# Altium schematic symbol library ICs_EFR.SchLib: 131 symbols (part 4 of 4)
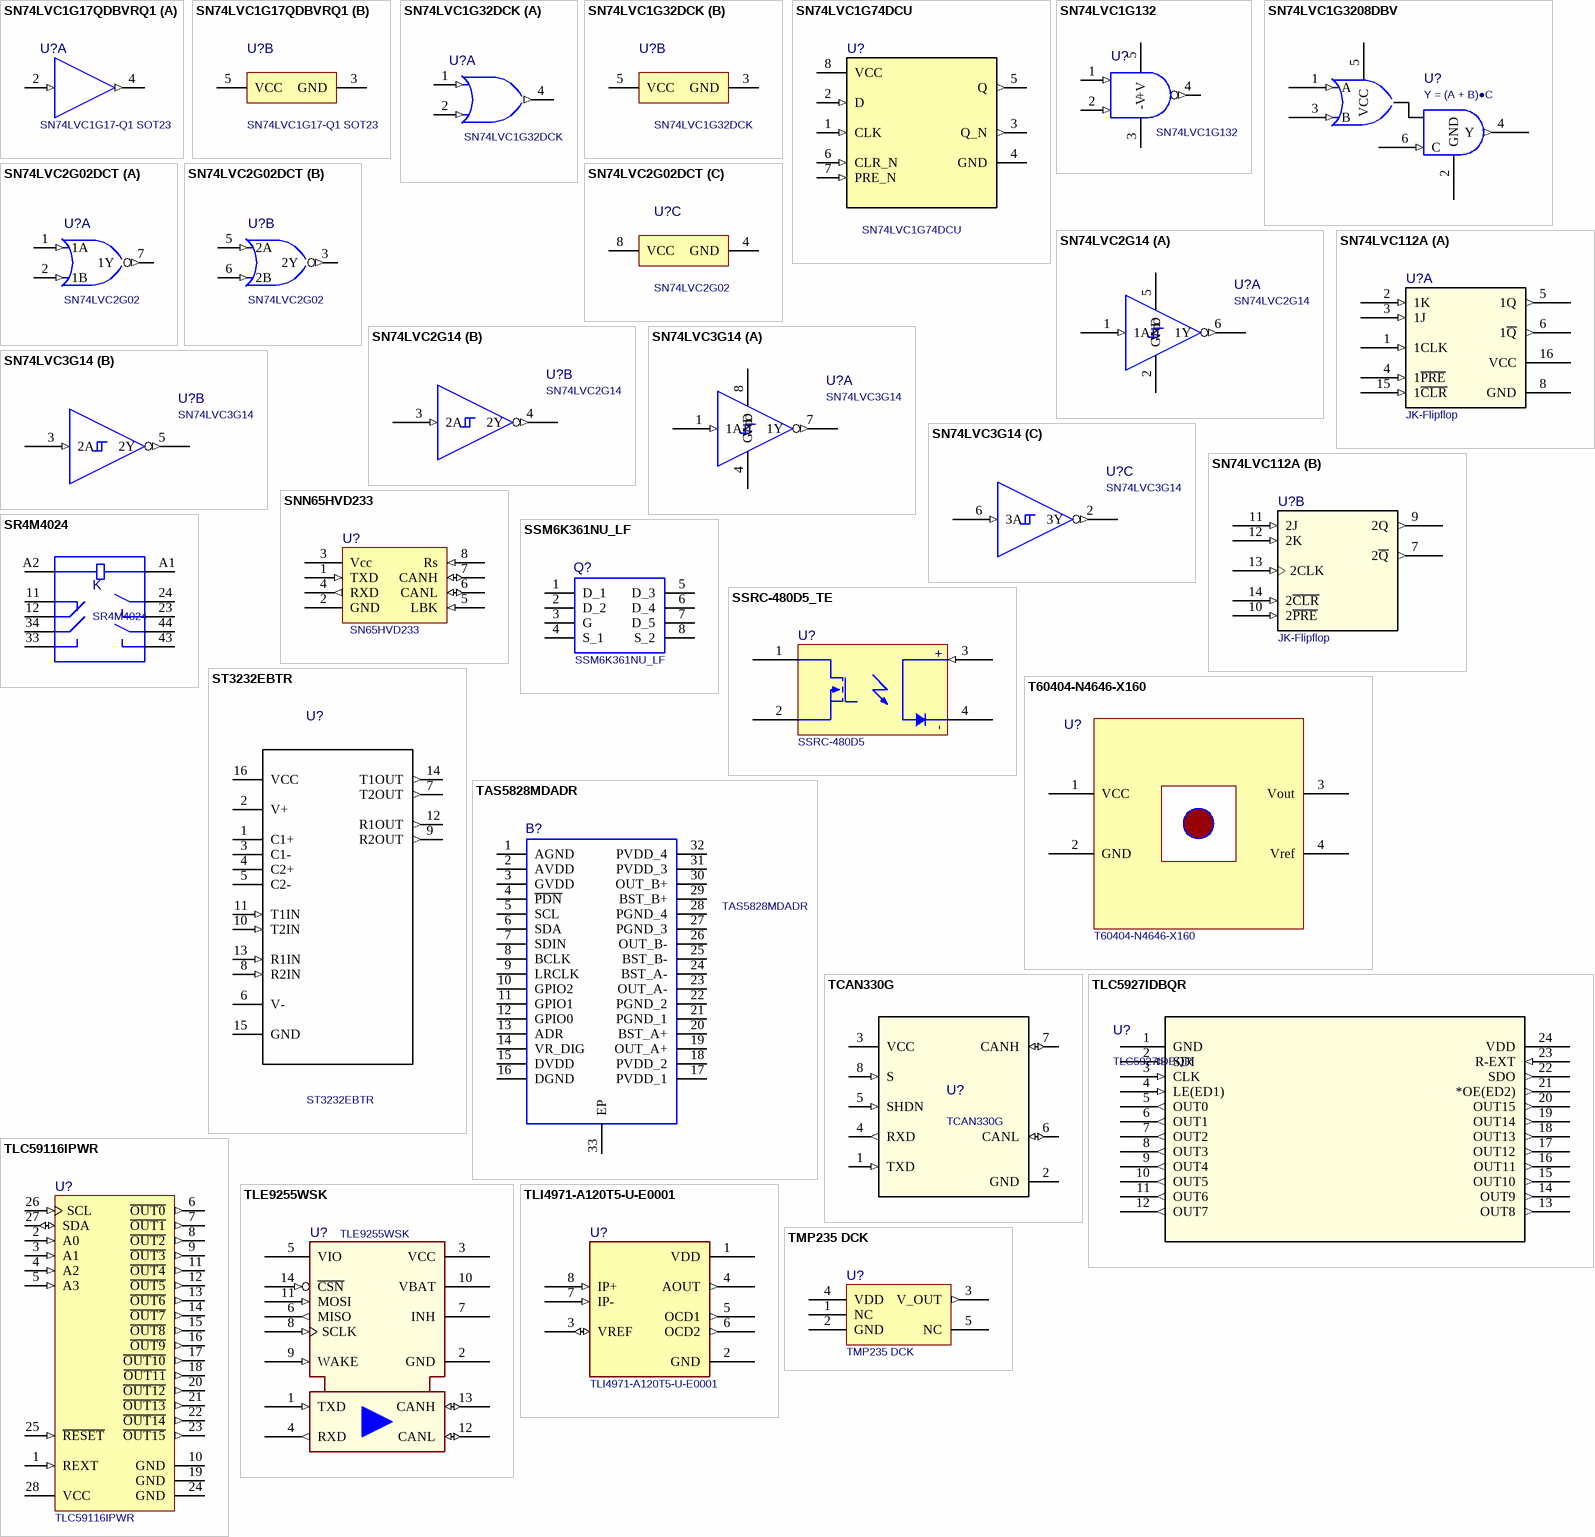
[diagram p11: symbols SN74LVC1G17QDBVRQ1 to TMP235 DCK]

## SN74LVC1G74DCU
designator U?
Single Positive-Edge-Triggered D-Type Flip-Flop With Clear and Preset; Manufacturer: Texas Instruments; Manufacturer P/N: SN74LVC1G74DCUT; CompType: IC; Type: DEV; RefDes: RefDes; Copyright: Copyright (C) 2023 Ultra Librarian. All rights reserved.; Application_BuildNumber: *; Manufacturer P/N: SN74LVC1G74DCU; Alternate_PartNumber: SN74LVC1G74DCUT; PackageReference: DCU0008A; Mounting Technology: SMT; RoHS: Y; ComponentLink1Description: Manufacturer; ComponentLink1URL: https://www.ti.com/product/de-de/SN74LVC1G74/part-details/SN74LVC1G74DCUT; ComponentLink2Description: Datasheet; ComponentLink2URL: https://www.ti.com/lit/gpn/SN74LVC1G74
footprint VSSOP-8_L (DCU8_TEX)
footprint VSSOP-8_N (DCU8_TEX)
footprint VSSOP-8_M (DCU8_TEX)
pins: 1 CLK (in), 2 D (in), 3 Q_N (out), 4 GND (power), 5 Q (out), 6 CLR_N (in), 7 PRE_N (in), 8 VCC (power)

## SN74LVC1G132
designator U?
Single 2-Input NAND Gate With Schmitt-Trigger Inputs; Manufacturer: Texas Instruments; Manufacturer P/N: SN74LVC1G38; Rating: Catalog; VCC(Min)(V): 1.65; VCC(Max)(V): 5.5; Bits(#): 1; F @ Nom Voltage(Max)(Mhz): 150; Logic: True; Output Type: CMOS; Technology Family: LVC; Voltage(Nom)(V): 1.8,2.5,3.3,5; Output Drive (IOL/IOH)(Max)(mA): 32/-32; Schmitt Trigger: No; Input Type: CMOS/TTL; ICC @ Nom Voltage(Max)(mA): 0.01; tpd @ Nom Voltage(Max)(ns): 10,6,4.5,3.9; DatasheetVersion: SCES538D; Operating Temperature Range(C): -40 to 125,-40 to 85; 3-State Output: No; Gate Type: NAND; PackageReference: DCK0005A; Sub-Family: NAND Gate; ComponentLink1Description: Datenblatt; ComponentLink1URL: http://www.ti.com/lit/ds/symlink/sn74lvc1g132.pdf; ComponentLink2Description: Hersteller; ComponentLink2URL: https://www.ti.com/product/SN74LVC1G132; Mounting Technology: SMT
footprint SC70-5_N (DCK5)
footprint SC70-5_L (DCK5)
footprint SC70-5_M (DCK5)
footprint SOT23-5_L (DBV5) (DBV)
footprint SOT23-5_N (DBV5)
footprint SOT23-5_M (DBV5)
pins: 1 A (in), 2 B (in), 3 -V (power), 4 Y (out), 5 +V (power)

## SN74LVC1G3208DBV
designator U?, comment Y = (A + B)●C
Single 3-Input Positive OR-AND Gate; Manufacturer: Texas Instruments; Manufacturer P/N: SN74LVC1G3208DBV; FAMILY_NAME: LL AND-OR, OR-AND GATE; Pin Number: 6; PackageDescriptor: DBV; Package: SOT-23-6; Type: Logic; ComponentLink1Description: Datasheet; ComponentLink1URL: http://www.ti.com/lit/gpn/SN74LVC1G3208; ComponentLink2Description: Manufacturer; ComponentLink2URL: https://www.ti.com/product/SN74LVC1G3208; Mounting Technology: SMT
footprint SOT23-6_L
footprint SOT23-6_N
footprint SOT23-6_M
pins: 1 A (in), 2 GND (power), 3 B (in), 4 Y (out), 5 VCC (power), 6 C (in)

## SN74LVC2G02DCT
designator U?, comment SN74LVC2G02
NOR Gate 2ch 2-IN CMOS Push-Pull; Manufacturer: Texas Instruments; Manufacturer P/N: SN74LVC2G02DCT; Min Supply Voltage: 1.65V; Max Supply Voltage: 5.5V; Propagation Delay: 4.4ns; Number of Outputs: 1; Number of Inputs: 2; Low Level Output Current: 32mA; Quiescent Current: 10uA; High Level Output Current: -32mA; Supplier: Mouser; Supplier Part Number: 595-SN74LVC2G02DCTR; RoHS: Yes; Category: Logic Gates; Case/Package: SSOP; Pins: 8; Weight: 0.000825oz; Min Operating Temperature: -40°C; Max Operating Temperature: 125°C; Logic Function: NOR GATE; Packaging: Tape and Reel; Number of Gates: 2; Number of Input Lines: 2; Number of Output Lines: 1; Number of Circuits: 2; Number of Elements: 2; Number of Bits: 2; Series: 74LVC; Technology: CMOS; Radiation Hardening: No; ComponentLink9Description: Website; ComponentLink9URL: https://www.ti.com/product/SN74LVC2G02; ComponentLink10Description: Datasheet; ComponentLink10URL: https://www.ti.com/lit/gpn/sn74lvc2g02; Mounting Technology: SMT
footprint SSOP-8_L SM8 (DCT8)
footprint SSOP-8_N SM8 (DCT8)
footprint SSOP-8_M SM8 (DCT8)
part A pins: 1 1A (in) "Channel 1 input A", 2 1B (in) "Channel 1 input B", 7 1Y (out) "Channel 1 input Y"
part B pins: 3 2Y (out) "Channel 2 input Y", 5 2A (in) "Channel 2 input A", 6 2B (in) "Channel 2 input B"
part C pins: 4 GND (power) "Ground", 8 VCC (power) "Positive supply"

## SN74LVC2G14
designator U?
Dual Schmitt-Trigger Inverter; Manufacturer: Texas Instruments; Manufacturer P/N: SN74LVC2G14; Type: *; ComponentLink1Description: Datasheet; ComponentLink1URL: https://www.ti.com/lit/gpn/SN74LVC2G14; ComponentLink2Description: Datasheet (Q1); ComponentLink2URL: https://www.ti.com/lit/gpn/SN74LVC2G14-Q1; ComponentLink3Description: Website; ComponentLink3URL: https://www.ti.com/product/SN74LVC2G14; ComponentLink4Description: Website (Q1); ComponentLink4URL: https://www.ti.com/product/SN74LVC2G14-Q1; Mounting Technology: SMT
footprint SOT23-6_L
footprint SOT23-6_N
footprint SOT23-6_M
footprint DSBGA-6 (YZP6_TEX)
footprint SC70-6_L (DCK6_TEX)
footprint SC70-6_N (DCK6_TEX)
footprint SC70-6_M (DCK6_TEX)
ibis LVC2G14_DCK (Model Description)
part A pins: 1 1A (in) "Gate 1 logic signal", 2 GND "Ground", 5 Vcc "Supply/Power Pin", 6 1Y (out) "Gate 1 inverted signal"
part B pins: 3 2A (in) "Gate 2 logic signal", 4 2Y (out) "Gate 1 inverted signal"

## SN74LVC3G14
designator U?
Triple Schmitt-Trigger Inverter; Manufacturer: Texas Instruments; Manufacturer P/N: SN74LVC3G14; ComponentLink1Description: Datasheet; ComponentLink1URL: https://www.ti.com/lit/gpn/SN74LVC3G14; ComponentLink2Description: Website; ComponentLink2URL: https://www.ti.com/product/SN74LVC3G14; Mounting Technology: SMT
footprint VSSOP-8_L (DCU8_TEX)
footprint VSSOP-8_N (DCU8_TEX)
footprint VSSOP-8_M (DCU8_TEX)
footprint SSOP-8_L SM8 (DCT8)
footprint SSOP-8_N SM8 (DCT8)
footprint SSOP-8_M SM8 (DCT8)
footprint DSBGA-8 (YZP8)
part A pins: 1 1A (in) "Input 1A", 4 GND "Ground", 7 1Y (out) "Output 1Y", 8 Vcc "Supply/Power Pin"
part B pins: 3 2A (in) "Input 2A", 5 2Y (out) "Output 2Y"
part C pins: 2 3Y (out) "Output 3Y", 6 3A (in) "Input 3A"

## SN74LVC112A
designator U?, comment JK-Flipflop
Dual Negative-Edge-Triggered J-K Flip-Flop With Clear And Preset; Manufacturer: Texas Instruments; Manufacturer P/N: SN74LVC112A; INDUSTRY_STD_PKG_TYPE: SOIC; FAMILY_NAME: J-K FLIPFLOP; Pin Number: 16; PackageDrawing: D; Datasheet_URL: http://www.ti.com/lit/gpn/SN74LVC112A; Copyright: Copyright (C) 2018 Accelerated Designs. All rights reserved; RefDes: RefDes; Type: DEV; Value: Value; ComponentLink1Description: Datasheet; ComponentLink1URL: https://www.ti.com/lit/ds/symlink/sn74lvc112a.pdf; ComponentLink2Description: Manufacturer; ComponentLink2URL: https://www.ti.com/product/SN74LVC112A; Mounting Technology: SMT
footprint SOIC-16_L (D)
footprint SOIC-16_N (D)
footprint SOIC-16_M (D)
footprint TSSOP-16_L (PW)
footprint TSSOP-16_N (PW)
footprint TSSOP-16_M (PW)
footprint SOP-16_L (NS)
footprint SOP-16_N (NS)
footprint SOP-16_M (NS)
footprint SSOP-16_L (DB)
footprint SSOP-16_N (DB)
footprint SSOP-16_M (DB)
footprint TVSOP-16_L (DGV)
footprint TVSOP-16_N (DGV)
footprint TVSOP-16_M (DGV)
part A pins: 1 1CLK (in), 2 1K (in), 3 1J (in), 4 1~{PRE} (in), 5 1Q (out), 6 1~{Q} (out), 8 GND (power), 15 1~{CLR} (in), 16 VCC (power)
part B pins: 7 2~{Q} (out), 9 2Q (out), 10 2~{PRE} (in), 11 2J (in), 12 2K (in), 13 2CLK (in), 14 2~{CLR} (in)

## SNN65HVD233
designator U?, comment SN65HVD233
3.3V CAN Transceiver with Loopback Mode; Manufacturer: Texas Instruments; Manufacturer P/N: SN65HVD233D; Contronix P/N: UGFVXZ; A I: 0; Voltage Max (V): 3,6; Current (A): 0,01; Pin Number: 8; Design Item Id: SN65HVD233; Package: 8-SOIC; Number of Rows: 2; Stock: 25; Price (€): 4,43; Supplier 1: RS; Supplier Part Number 1: 461-9765; Type2: Transceiver; ComponentLink1Description: Datenblatt; ComponentLink1URL: http://www.ti.com/lit/ds/symlink/sn65hvd233.pdf; Created: 18.12.2011 17:21:47; Modified: 02.03.2016 14:32:45; ComponentLink3Description: Hersteller; ComponentLink3URL: http://www.ti.com/product/SN65HVD233; Type1: CAN; Mounting Technology: SMT
footprint SOIC-08
pins: 1 TXD (in) "CAN transmit data input (LOW for dominantand HIGH for recessive bus states), also called TXD, driver input", 2 GND (power), 3 Vcc (power) "Transceiver 3.3-V supply voltage", 4 RXD (out), 5 LBK (in) "Loopbackmode input pin", 6 CANL (io) "Low-level CAN bus line", 7 CANH (io) "High-level CAN bus line", 8 Rs (in) "Mode select pin: strong pull down to GND = high-speed mode, strong pull up to VCC = low-power mode, 10-kΩ to 100-kΩ pull down to GND = slope control mode"

## SR4M4024
designator K
RELAY SAFETY 4PST 8A 24V; Manufacturer: TE Connectivity; Manufacturer P/N: 4-1415053-1; ComponentLink1Description: SnapEDA; ComponentLink1URL: https://www.snapeda.com/parts/4-1415053-1/TE%20Connectivity/view-part/287229/?ref=snap; Mounting Technology: THT; ComponentLink2Description: Website; ComponentLink2URL: https://www.te.com/de/product-4-1415053-1.html; ComponentLink3Description: Datasheet; ComponentLink3URL: https://www.te.com/commerce/DocumentDelivery/DDEController?Action=showdoc&DocId=Data+Sheet%7FSR4_D%2FM%7F2%7Fpdf%7FEnglish%7FENG_DS_SR4_DXM_2.pdf%7F4-1415053-1
footprint RELAY_SR4M4024
pins: 11, 12, 23, 24, 33, 34, 43, 44, A1, A2

## SSM6K361NU_LF
designator Q?
MOSFET LowON Res MOSFET ID=3.5A VDSS=100V; Manufacturer: Toshiba; Manufacturer P/N: SSM6K361NU,LF; Geometry.Height: 0.8mm; Mouser Part Number: 757-SSM6K361NULF; Mouser Price/Stock: https://www.mouser.co.uk/ProductDetail/Toshiba/SSM6K361NULF?qs=r5DSvlrkXmI6CMotDiSj1g%3D%3D; Arrow Part Number: SSM6K361NU,LF; Arrow Price/Stock: https://www.arrow.com/en/products/ssm6k361nulf/toshiba?region=nac; Mouser Testing Part Number: *; Mouser Testing Price/Stock: *; Datasheet Link: https://www.arrow.com/en/products/ssm6k361nulf/toshiba; Mounting Technology: SMT; ComponentLink1Description: New link; ComponentLink1URL: *; ComponentLink2Description: New link 1; ComponentLink2URL: *; Supplier 1: Mouser; Supplier Part Number 1: 757-SSM6K361NULF
footprint SSM6K361NULF
pins: 1 D_1, 2 D_2, 3 G, 4 S_1, 5 D_3, 6 D_4, 7 D_5, 8 S_2

## SSRC-480D5_TE
designator U?, comment SSRC-480D5
SSR, PCB MOUNT, 660VAC, 15VDC, 5A; Manufacturer: TE Connectivity P&B; Manufacturer P/N: 5-1393030-9; Pin Number: 4; Max Output Voltage: 660V; Max Input Voltage: 15V; Throw Configuration: SPST; Min Supply Voltage (AC): 48V; Relay Type: Relay; Input Type: DC; ComponentLink1Description: Manufacturer; ComponentLink1URL: https://www.te.com/usa-en/product-CAT-P851-SS61B.html; ComponentLink2Description: Datasheet; ComponentLink2URL: https://www.te.com/commerce/DocumentDelivery/DDEController?Action=showdoc&DocId=Data+Sheet%7F1308242_SSRC%7F0118%7Fpdf%7FEnglish%7FENG_DS_1308242_SSRC_0118.pdf%7F6-1393030-1; Supplier 1: Newark; RoHS: Yes; Category: Solid State Relays; Stock 1: 44; Pricing 1: 1=41,01000, 5=38,87000, 10=37,61000, 25=35,69000, 50=32,39000, 100=30,76000 (USD); Case/Package: SIP; Min Operating Temperature: -30°C; Max Operating Temperature: 80°C; Package Quantity: 100; Packaging: Bulk; Load Current: 5A; Termination: PC Pin; Max Supply Voltage (AC): 660V; Max Voltage Rating (DC): 15V; Input Current: 5A; Nominal Input Voltage (DC): 15V; Contact Current Rating: 5A; Series: SSRC; Min Supply Voltage: 48V; Max Supply Voltage: 660V; Depth: 7.6mm; Radiation Hardening: No; REACH SVHC: Unknown; ELV: Compliant; RoHS Compliant: Yes; Supplier Part Number 1: 42AJ4194; Mounting Technology: THT
footprint SSRC_TE (5A SIP Solid State Relay  With Paired SCR Output of TE)
pins: 1 "AC Load", 2 "AC Load", 3 (in) "+DC INPUT", 4 "-DC INPUT"
text: +; -

## ST3232EBTR
designator U?
15KV ESD PROTECTED, 3 TO 5.5 V LOW POWER UP TO 250KBPS, RS232 DRIVERS AND RECEIVERS, [-40oC, 85oC] TEMPERATURE RANGE; Manufacturer: STMicroelectronics; Package: TSSOP-16 STMicroelectronics; Manufacturer P/N: ST3232EBTR; Mounting Technology: SMT; ComponentLink1Description: Website; ComponentLink1URL: https://www.st.com/en/interfaces-and-transceivers/st3232eb.html; ComponentLink2Description: Datasheet; ComponentLink2URL: https://www.st.com/resource/en/datasheet/st3232eb.pdf; ComponentLink3Description: SnapEDA; ComponentLink3URL: https://www.snapeda.com/parts/ST3232EBTR/STMicroelectronics/view-part/1042973/?ref=snap; Supplier 1: Mouser; Supplier Part Number 1: 511-ST3232EB
footprint SOP65P640X120-16N
pins: 1 C1+, 2 V+ (power), 3 C1-, 4 C2+, 5 C2-, 6 V- (power), 7 T2OUT (out), 8 R2IN (in), 9 R2OUT (out), 10 T2IN (in), 11 T1IN (in), 12 R1OUT (out), 13 R1IN (in), 14 T1OUT (out), 15 GND, 16 VCC (power)

## T60404-N4646-X160
designator U?
100 A Current Sensor Module for 5V-Spply Voltage; Manufacturer: Vacuumschmelze; ComponentLink2Description: Datasheet; ComponentLink2URL: https://www.vacuumschmelze.com/Assets-Web/4646-X160_en.pdf; Manufacturer P/N: T60404-N4646-X160; Mounting Technology: SMT; Supplier 1: Mouser; Supplier Part Number 1: 983-T60404-N4646X160
footprint VAC-T60404 (CurrentSensor)
pins: 1 VCC, 2 GND, 3 Vout, 4 Vref

## TAS5828MDADR
designator B?
Audio Amplifiers 50-W stereo, digital input, high-performance, closed-loop, Class-D, with integrated audio processor 32-HTSSOP -40 to 85; Manufacturer: Texas Instruments; Manufacturer P/N: TAS5828MDADR; Mounting Technology: SMT; Height (mm): 1.15; ComponentLink1Description: Website; ComponentLink1URL: https://www.ti.com/product/TAS5828M; ComponentLink2Description: Datasheet; ComponentLink2URL: https://www.ti.com/lit/ds/symlink/tas5828m.pdf; Supplier 1: Mouser; Supplier Part Number 1: 595-TAS5828MDADR
footprint SOP65P810X115-33N
pins: 1 AGND, 2 AVDD, 3 GVDD, 4 ~{PDN}, 5 SCL, 6 SDA, 7 SDIN, 8 BCLK, 9 LRCLK, 10 GPIO2, 11 GPIO1, 12 GPIO0, 13 ADR, 14 VR_DIG, 15 DVDD, 16 DGND, 17 PVDD_1, 18 PVDD_2, 19 OUT_A+, 20 BST_A+, 21 PGND_1, 22 PGND_2, 23 OUT_A-, 24 BST_A-, 25 BST_B-, 26 OUT_B-, 27 PGND_3, 28 PGND_4, 29 BST_B+, 30 OUT_B+, 31 PVDD_3, 32 PVDD_4, 33 EP

## TCAN330G
designator U?
3.3-V CAN Transceivers with CAN FD (Flexible Data Rate); Manufacturer: Texas Instruments; Manufacturer P/N: TCAN330GDR; Mounting Technology: SMT; Supplier 1: Mouser; Supplier Part Number 1: 595-TCAN330GDR; ComponentLink1Description: Datasheet; ComponentLink1URL: https://www.ti.com/lit/gpn/tcan330g; ComponentLink2Description: Manufacturer; ComponentLink2URL: https://www.ti.com/product/TCAN330G; Supplier 2: Mouser; Supplier Part Number 2: 595-TCAN330GD
footprint SOIC-8_L (D8)
footprint SOIC-8_N (D8)
footprint SOIC-8_M (D8)
footprint SOT23-8_L (DCN)
footprint SOT23-8_N (DCN)
footprint SOT23-8_M (DCN)
pins: 1 TXD (in), 2 GND (power), 3 VCC (power), 4 RXD (out), 5 SHDN (in), 6 CANL (io), 7 CANH (io), 8 S (in)

## TLC5927IDBQR
designator U?
16-bit constant-current LED sink driver; Manufacturer: Texas Instruments; Manufacturer P/N: TLC5927IDBQR; Mounting Technology: SMT; ComponentLink1Description: Website; ComponentLink1URL: https://www.ti.com/product/TLC5926; ComponentLink2Description: Datasheet; ComponentLink2URL: https://www.ti.com/lit/gpn/tlc5927; Supplier 1: Mouser; Supplier Part Number 1: 595-TLC5927IDBQR
footprint DBQ24
footprint DBQ24-L
footprint DBQ24-M
pins: 1 GND (power), 2 SDI (in), 3 CLK (in), 4 LE(ED1) (in), 5 OUT0 (out), 6 OUT1 (out), 7 OUT2 (out), 8 OUT3 (out), 9 OUT4 (out), 10 OUT5 (out), 11 OUT6 (out), 12 OUT7 (out), 13 OUT8 (out), 14 OUT9 (out), 15 OUT10 (out), 16 OUT11 (out), 17 OUT12 (out), 18 OUT13 (out), 19 OUT14 (out), 20 OUT15 (out), 21 *OE(ED2) (out), 22 SDO (out), 23 R-EXT (in), 24 VDD (power)

## TLC59116IPWR
designator U?
16-Bit Fast-Mode Plus (FM+) I2C Bus Constant-Current LED Sink Driver, 3 to 5.5 V, -40 to 85 degC, 28-pin SOP (PW28), Green (RoHS & no Sb/Br); Manufacturer: Texas Instruments; Vin(Max)(V): 5.5; SubFamily: LED Driver; Rating: Catalog; Vin(Min)(V): 3; Mounting Technology: SMT; PackageReference: PW0028A; ComponentLink1URL: http://www.ti.com/; Code_JEDEC: MO-153; PackageVersion: 4040064-7/G; ComponentLink3Description: Package Specification; Manufacturer P/N: TLC59116IPWR; PackageDescription: 28-Pin Plastic Small Outline, Body 9.7 x 4.4 mm, Pitch 0.65 mm; DatasheetVersion: SLDS157D; ComponentLink3URL: http://www.ti.com/litv/pdf/mpds364; Eco-Plan: Green (RoHS & no Sb/Br); ComponentLink2URL: http://www.ti.com/general/docs/lit/getliterature.tsp?genericPartNumber=TLC59116&fileType=pdf; ComponentLink2Description: Datasheet; ComponentLink1Description: Manufacturer URL
footprint TSSOP-28_L (PW28)
footprint TSSOP-28_N (PW28)
footprint TSSOP-28_M (PW28)
pins: 1 REXT (in) "Input terminal used to connect an external resistor for setting up all output currents", 2 A0 (in) "Address input 0", 3 A1 (in) "Address input 1", 4 A2 (in) "Address input 2", 5 A3 (in) "Address input 3", 6 ~{OUT0} (out) "Constant current output 0", 7 ~{OUT1} (out) "Constant current output 1", 8 ~{OUT2} (out) "Constant current output 2", 9 ~{OUT3} (out) "Constant current output 3", 10 GND (power) "Ground", 11 ~{OUT4} (out) "Constant current output 4", 12 ~{OUT5} (out) "Constant current output 5", 13 ~{OUT6} (out) "Constant current output 6", 14 ~{OUT7} (out) "Constant current output 7", 15 ~{OUT8} (out) "Constant current output 8", 16 ~{OUT9} (out) "Constant current output 9", 17 ~{OUT10} (out) "Constant current output 10", 18 ~{OUT11} (out) "Constant current output 11", 19 GND (power) "Ground", 20 ~{OUT12} (out) "Constant current output 12", 21 ~{OUT13} (out) "Constant current output 13", 22 ~{OUT14} (out) "Constant current output 14", 23 ~{OUT15} (out) "Constant current output 15", 24 GND (power) "Ground", 25 ~{RESET} (in) "Active-low reset input", 26 SCL (in) "Serial clock input", 27 SDA (io) "Serial data input/output", 28 VCC (power) "Power supply"

## TLE9255WSK
designator U?
HS CAN Transceiver with Partial Networking; Manufacturer: Infineon Technologies; Manufacturer P/N: TLE9255WSK; PackageReference: PG-DSO-14; Mounting Technology: SMT
footprint SOIC127P600X175-14N-0 (SOIC,1.27mm pitch;14 pin,8.65mm W X 6.00mm L X 1.75mm H body)
pins: 1 TXD (in) "Transmit data input", 2 GND (power) "Ground", 3 VCC (power) "Transmitter Supply Voltage", 4 RXD (out) "Receive data output", 5 VIO (power) "Level Shift Input", 6 MISO (out) "SPI Serial Data Output", 7 INH (oc) "Inhibit output", 8 SCLK (in) "SPI Clock Input", 9 WAKE (in) "Wake-up Input", 10 VBAT (power) "Battery Supply Voltage", 11 MOSI (in) "SPI Serial Data Input", 12 CANL (io) "Low-level HS CAN Bus Line", 13 CANH (io) "High-level HS CAN Bus Line", 14 ~{CSN} (in) "SPI Chip Select Not Input"

## TLI4971-A120T5-U-E0001
designator U?
Current Sensor 50A 1 Channel Hall Effect, Open Loop Unidirectional 8-PowerTDFN; Manufacturer: Infineon Technologies; Manufacturer P/N: TLI4971A050T5UE0001XUMA1; Package: PowerTDFN-8 Infineon Technologies; ComponentLink1Description: Website; ComponentLink1URL: https://www.infineon.com/cms/en/product/sensor/current-sensors/tli4971-a050t5-u-e0001/?redirId=140584; ComponentLink2Description: Datasheet; ComponentLink2URL: https://www.infineon.com/dgdl/Infineon-TLI4971_25_50_75_120-DataSheet-v01_30-EN.pdf?fileId=5546d462700c0ae6017034d731621b09; ComponentLink3Description: SnapEDA; ComponentLink3URL: https://www.snapeda.com/parts/TLI4971A050T5UE0001XUMA1/Infineon%20Technologies/view-part/6100813/?ref=snap; Mounting Technology: SMT; Supplier 1: Mouser; Supplier Part Number 1: 726-TLI4971A050T5UE1; Supplier 2: Digikey; Supplier Part Number 2: 448-TLI4971A050T5UE0001XUMA1CT-ND
footprint TLI4971A050T5UE0001XUMA1
pins: 1 VDD (power), 2 GND (power), 3 VREF (io), 4 AOUT (out), 5 OCD1 (out), 6 OCD2 (out), 7 IP- (in), 8 IP+ (in)

## TMP235 DCK
designator U?
Tempsensor TI TMP235 DCK / -40°C - 150°C  ±2.5°C; Manufacturer: Texas Instruments; Pin Number: 5; ComponentLink1Description: Datenblatt; ComponentLink1URL: http://www.ti.com/lit/ds/symlink/tmp235.pdf; ComponentLink2Description: Hersteller; ComponentLink2URL: http://www.ti.com/product/TMP235; Manufacturer P/N: TMP235; Mounting Technology: SMT
footprint SC70-5_L (DCK5)
footprint SC70-5_M (DCK5)
footprint SC70-5_N (DCK5)
pins: 1 NC "Open or to Ground", 2 GND (power) "Power supply ground.", 3 V_OUT (out) "Outputs voltage proportional to temperature", 4 VDD (power) "max 6 V", 5 NC "Open or to Ground"

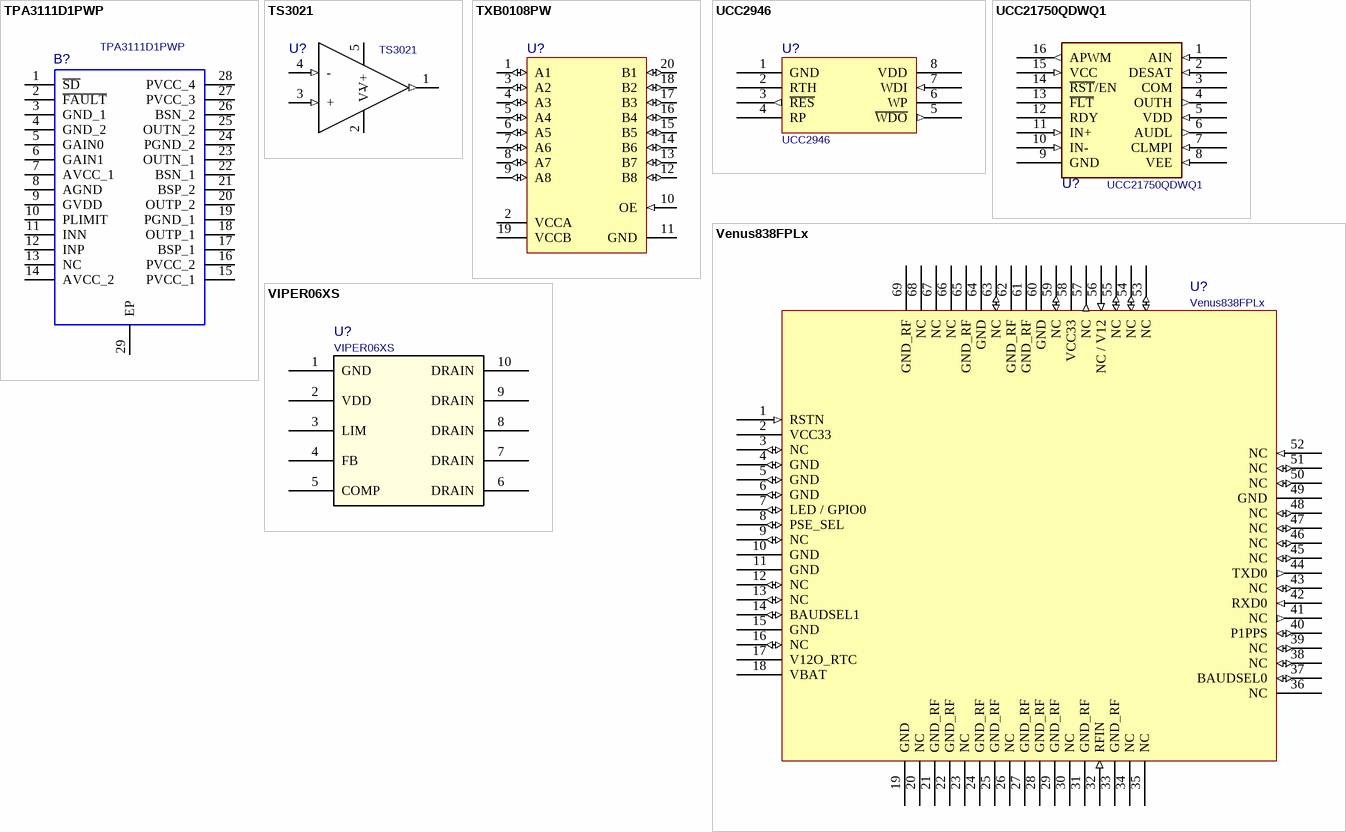
[diagram p8: symbols TPA3111D1PWP to VIPER06XS]

## TPA3111D1PWP
designator B?
10-W Mono Class-D Audio Power Amplifier with SpeakerGuard (TPA3111); Manufacturer: Texas Instruments; Manufacturer P/N: TPA3111D1PWP; Height (mm): 1.2; ComponentLink1Description: Website; ComponentLink1URL: https://www.ti.com/product/TPA3111D1; ComponentLink2Description: Datashhet; ComponentLink2URL: http://www.ti.com/lit/gpn/TPA3111D1; Supplier 1: Mouser; Supplier Part Number 1: 595-TPA3111D1PWP; Supplier 2: Arrow; Supplier Part Number 2: TPA3111D1PWP; Mounting Technology: SMT
footprint SOP65P640X120-29N
pins: 1 ~{SD}, 2 ~{FAULT}, 3 GND_1, 4 GND_2, 5 GAIN0, 6 GAIN1, 7 AVCC_1, 8 AGND, 9 GVDD, 10 PLIMIT, 11 INN, 12 INP, 13 NC, 14 AVCC_2, 15 PVCC_1, 16 PVCC_2, 17 BSP_1, 18 OUTP_1, 19 PGND_1, 20 OUTP_2, 21 BSP_2, 22 BSN_1, 23 OUTN_1, 24 PGND_2, 25 OUTN_2, 26 BSN_2, 27 PVCC_3, 28 PVCC_4, 29 EP

## TS3021
designator U?
Rail-to-rail 1.8 V high-speed comparator; Manufacturer: STMicroelectronics; Manufacturer P/N: TS3021IYLT; Pin Number: 5; Rev: =VersionControl_RevNumber; ComponentLink1Description: Datasheet (Online); ComponentLink1URL: https://www.st.com/resource/en/datasheet/ts3021.pdf; ComponentLink2Description: Datasheet (Local); ComponentLink2URL: ..\Datasheet\ST\ts3021.pdf; ComponentLink3Description: Manufacturer; ComponentLink3URL: https://www.st.com/en/amplifiers-and-comparators/ts3021.html; Mounting Technology: SMT
footprint SOT23-5_L (DBV5) (DBV)
footprint SOT23-5_N (DBV5)
footprint SOT23-5_M (DBV5)
footprint SC70-5_L (DCK5)
footprint SC70-5_M (DCK5)
footprint SC70-5_N (DCK5)
pins: 1 OUT (out) "Output", 2 V-, 3 + (in), 4 - (in), 5 V+

## TXB0108PW
designator U?
TXB0108 8-Bit Bidirectional Voltage-Level Translator with Auto-Direction Sensing and / +/- 15-kV ESD Protection, 1.2 to 3.6 V, -40 to 85 degC, 20-Pin TSSOP (PW), Green (RoHS & no Sb/Br), Tape and Reel; Manufacturer: Texas Instruments; Manufacturer P/N: TXB0108PW; Propagation Delay (Max): 4ns; Logic Function: Translator,Bidirectional; Input Type: Logic; Voltage - Supply: 1.2V~3.6V,1.65V~5.5V; Number of Channels: 8; Differential - Input: Output:No/No; Number of Outputs/Channel: 1; Product Training Modules: VoltageLevelTranslation; Dynamic Catalog: TXBSeries; Data Rate: 100Mbps; Package Reference: PW20; Package Description: 20-Pin Small Outline Package Integrated Circuit, Body 6.5 x 4.4 mm, Pitch 0.65 mm; Category: IntegratedCircuits(ICs); Datasheet URL: http://www.ti.com/general/docs/lit/getliterature.tsp?genericPartNumber=TXB0108&fileType=pdf; Package / Case: 20-TSSOP(0.173",4.40mmWidth); Family: Logic-Translators; Manufacturer URL: http://www.ti.com/; Number of Bits: 8; Package URL: http://www.ti.com/litv/pdf/mpds362; Output Type: Logic; Datasheet Version: Rev. F, 12/2014; ComponentLink1Description: Datasheet; ComponentLink1URL: https://www.ti.com/lit/ds/symlink/txb0108.pdf; ComponentLink2Description: Manufacturer; ComponentLink2URL: https://www.ti.com/product/TXB0108; Mounting Technology: SMT
footprint TSSOP20_L (SOP, 20-Leads, Body 6.6x4.5mm, Pitch 0.65mm, IPC High Density)
footprint TSSOP20_N (SOP, 20-Leads, Body 6.6x4.5mm, Pitch 0.65mm, IPC Medium Density)
footprint TSSOP20_M (SOP, 20-Leads, Body 6.6x4.5mm, Pitch 0.65mm, IPC Low Density)
pins: 1 A1 (io) "Input/output 1. Referenced to VCCA.", 2 VCCA (power) "A-port supply voltage. 1.1 V =< VCCA =< 3.6 V, VCCA =< VCCB.", 3 A2 (io) "Input/output 2. Referenced to VCCA.", 4 A3 (io) "Input/output 3. Referenced to VCCA.", 5 A4 (io) "Input/output 4. Referenced to VCCA.", 6 A5 (io) "Input/output 5. Referenced to VCCA.", 7 A6 (io) "Input/output 6. Referenced to VCCA.", 8 A7 (io) "Input/output 7. Referenced to VCCA.", 9 A8 (io) "Input/output 8. Referenced to VCCA.", 10 OE (in) "Output enable. Pull OE low to place all outputs in 3-state mode. Referenced to VCCA.", 11 GND (power) "Ground", 12 B8 (io) "Input/output 8. Referenced to VCCB.", 13 B7 (io) "Input/output 7. Referenced to VCCB.", 14 B6 (io) "Input/output 6. Referenced to VCCB.", 15 B5 (io) "Input/output 5. Referenced to VCCB.", 16 B4 (io) "Input/output 4. Referenced to VCCB.", 17 B3 (io) "Input/output 3. Referenced to VCCB.", 18 B2 (io) "Input/output 2. Referenced to VCCB.", 19 VCCB (power) "B-port supply voltage. 1.65 V =< VCCB =< 5.5 V.", 20 B1 (io) "Input/output 1. Referenced to VCCB."

## UCC2946
designator U?
Microprocessor Supervisor with Watchdog Timer; Manufacturer: Texas Instruments; ComponentLink1Description: Datasheet; ComponentLink1URL: https://www.ti.com/lit/gpn/ucc2946; ComponentLink2Description: Website; ComponentLink2URL: https://www.ti.com/product/UCC2946; Manufacturer P/N: UCC2946; Mounting Technology: SMT
footprint SOIC-8_L (D8)
footprint SOIC-8_N (D8)
footprint SOIC-8_M (D8)
footprint TSSOP-8_L (PW8)
footprint TSSOP-8_N (PW8)
footprint TSSOP-8_M (PW8)
pins: 1 GND (power), 2 RTH, 3 ~{RES} (out), 4 RP, 5 ~{WDO} (out), 6 WP, 7 WDI (in), 8 VDD (power)

## UCC21750QDWQ1
designator U?
10-A Source/Sink Reinforced Isolated Single Channel Gate Driver / for SiC/IGBT with Active Protection, Isolated Analog Sensing and High-CMTI; Manufacturer: Texas Instruments; Manufacturer P/N: UCC21750QDWQ1; ComponentLink1Description: Datasheet; ComponentLink1URL: https://www.ti.com/lit/ds/symlink/ucc21750-q1.pdf; ComponentLink2Description: Website; ComponentLink2URL: https://www.ti.com/product/de-de/UCC21750-Q1/part-details/UCC21750QDWQ1; Mounting Technology: SMT; Supplier 1: Mouser; Supplier Part Number 1: 595-UCC21750QDWRQ1; Supplier 2: Digikey; Supplier Part Number 2: 296-UCC21750QDWRQ1CT-ND
footprint SOIC-16 (DW) (SOIC, 16-Leads, Body 10.5x7.6mm, Pitch 1.27mm, Texas Instruments, Package DW)
pins: 1 AIN (in), 2 DESAT (in), 3 COM, 4 OUTH (out), 5 VDD (in), 6 AUDL (out), 7 CLMPI (in), 8 VEE (in), 9 GND, 10 IN- (in), 11 IN+ (in), 12 RDY, 13 ~{FLT}, 14 ~{RST}/EN, 15 VCC (in), 16 APWM (out)

## Venus838FPLx
designator U?
GPS Module 50Hz -165dBm Low-Power; Manufacturer: SkyTraq Technology; ComponentLink1Description: Website; ComponentLink1URL: https://www.skytraq.com.tw/homesite/home-product; ComponentLink2Description: Datasheet; ComponentLink2URL: https://www.skytraq.com.tw/homesite/Venus838FLPx_PB_v1.pdf; Manufacturer P/N: Venus838FPLx; Mounting Technology: SMT
footprint Venus838FLPx (QFN, 44-Leads, Body 10,00x10,00mm, Pitch 0,80mm, IPC Medium Density)
footprint VENUS838FLPX (QFN, 44-Leads, Body 10,00x10,00mm, Pitch 0,80mm, IPC Medium Density)
pins: 1 RSTN (in), 2 VCC33 (power), 3 NC (io), 4 GND (io), 5 GND (io), 6 GND (io), 7 LED / GPIO0 (io), 8 PSE_SEL (io), 9 NC (io), 10 GND (power), 11 GND (power), 12 NC (io), 13 NC (io), 14 BAUDSEL1 (io), 15 GND (power), 16 NC (io), 17 V12O_RTC, 18 VBAT (power), 19 GND (power), 20 NC, 21 GND_RF (power), 22 GND_RF (power), 23 NC, 24 GND_RF (power), 25 GND_RF (power), 26 NC, 27 GND_RF (power), 28 GND_RF (power), 29 GND_RF (power), 30 NC, 31 GND_RF (power), 32 RFIN (in), 33 GND_RF (power), 34 NC, 35 NC, 36 NC, 37 BAUDSEL0 (io), 38 NC (io), 39 NC (io), 40 P1PPS (io), 41 NC (out), 42 RXD0 (in), 43 NC (io), 44 TXD0 (out), 45 NC (io), 46 NC (io), 47 NC (io), 48 NC (io), 49 GND (power), 50 NC (io), 51 NC (io), 52 NC (in), 53 NC (io), 54 NC (io), 55 NC (io), 56 NC / V12 (in) "1.2V for Venus838FLPx-D", 57 NC (out), 58 VCC33 (power), 59 NC (io), 60 GND (power), 61 GND_RF (power), 62 GND_RF (power), 63 NC (io), 64 GND (power), 65 GND_RF (power), 66 NC, 67 NC, 68 NC, 69 GND_RF (power)

## VIPER06XS
designator U?
Energy saving high voltage converter for direct feedback; Manufacturer: STMicroelectronics; Manufacturer P/N: VIPER06XS; Mounting Technology: SMT; Supplier 1: Mouser; Supplier Part Number 1: 511-VIPER06XS; Supplier 2: Digikey; Supplier Part Number 2: 497-14660-ND; ComponentLink1Description: Website; ComponentLink1URL: https://www.st.com/en/power-management/viper06.html; ComponentLink2Description: Datasheet; ComponentLink2URL: https://www.st.com/resource/en/datasheet/viper06.pdf
footprint SSO_R06XS_STM
pins: 1 GND (power), 2 VDD (power), 3 LIM, 4 FB, 5 COMP, 6 DRAIN, 7 DRAIN, 8 DRAIN, 9 DRAIN, 10 DRAIN